# Altium footprint library KNoT-Gateway.PcbLib: 21 footprints (part 2 of 2)
Each footprint in its own frame and in the unit in brackets; x right, y up, seen from the top. Pads: shape width x height; smd on the part's side, far side on the other; paste and mask are expansions set on the pad; w line width, h text height; cw(c..) or ccw(c..) is an arc to the next point about the centre after c.
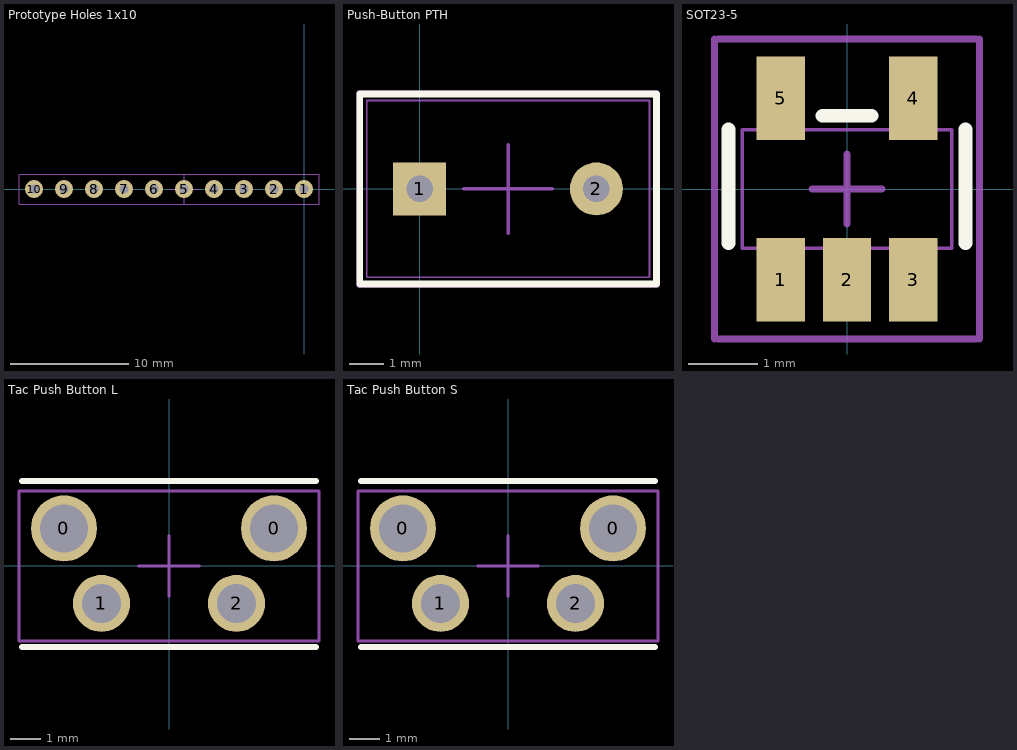
[diagram p1: the footprints below, top view; thin cyan lines are the x and y axes]

## Prototype Holes 1x10 [mil]
pads (10):
  round 60 hole 30: 1(0,0) 2(-100,0) 3(-200,0) 4(-300,0) 5(-400,0) 6(-500,0) 7(-600,0) 8(-700,0) 9(-800,0) 10(-900,0)
Mechanical 15:
  lines w3.94: -450,0 -350,0 ; -400,-50 -400,50 ; -950,-50 -950,50 50,50 50,-50 -950,-50

## Push-Button PTH [mil]
pads (2):
  rect 60x60 hole 30: 1(0,0)
  round 60 hole 30: 2(200,0)
Top Overlay:
  lines w7.87: 267.87,107.68 267.87,-107.87 -67.87,-107.87 -67.87,107.68 267.87,107.68 ; 267.87,107.68 267.87,107.68
Mechanical 11:
  lines w1.97: -60,-100 -60,100 260,100 260,-100 -60,-100
Mechanical 15:
  lines w3.94: 50,0 150,0 ; 100,-50 100,50 ; -69.84,-109.84 -69.84,109.65 269.72,109.65 269.72,-109.84 -69.84,-109.84
3D body: height 129.92, standoff -742.13, extent -60.03,-100.11 260.04,100.01

## SOT23-5 [mm]
pads (5):
  rect 0.69x1.2 smd: 1(-0.95,-1.3) 2(0,-1.3) 3(0.95,-1.3) 4(0.95,1.3) 5(-0.95,1.3)
Top Overlay:
  lines w0.2: -1.7,-0.771 -1.7,0.85 ; -0.35,1.05 0.35,1.05 ; 1.7,-0.771 1.7,0.85
Top Solder:
  region: -0.95,-1.993 -0.95,-0.6 0.95,-0.6 0.95,-1.987
Mechanical 11:
  lines w0.05: -1.5,-0.85 -1.5,0.85 1.5,0.85 1.5,-0.85 -1.5,-0.85
Mechanical 15:
  lines w0.1: -1.9,-2.15 -1.9,2.15 ; -1.85,-2.15 1.85,-2.15 ; -1.85,2.15 1.85,2.15 ; -0.5,0 0.5,0 ; 0,-0.5 0,0.5 ; 1.9,-2.15 1.9,2.15
3D body: height 1.05, standoff -0.05, extent -1.5,-1.25 1.5,1.25

## Tac Push Button L [mm] "Panasonic Small Tac Push Button 8.35mm"
pads (4):
  round 2.2 hole 1.6: 0(-3.5,1.25) 0(3.5,1.25)
  round 1.9 hole 1.3: 1(-2.25,-1.25) 2(2.25,-1.25)
Top Overlay:
  lines w0.2: -4.9,-2.7 4.9,-2.7 ; -4.9,2.827 0,2.827 4.9,2.827
Mechanical 1:
  lines w0.1: -5,-2.5 -5,2.5 5,2.5 5,-2.5 -5,-2.5
Mechanical 15:
  lines w0.1: -1.016,0 1.016,0 0,0 0,1.016 0,-1.016
3D body: height 7.31, standoff -3.39, extent -4.064,-9.381 4.036,2.269

## Tac Push Button S [mm] "Panasonic Small Tac Push Button 5.85mm"
pads (4):
  round 2.2 hole 1.6: 0(-3.5,1.25) 0(3.5,1.25)
  round 1.9 hole 1.3: 1(-2.25,-1.25) 2(2.25,-1.25)
Top Overlay:
  lines w0.2: -4.9,-2.7 4.9,-2.7 ; -4.9,2.827 0,2.827 4.9,2.827
Mechanical 1:
  lines w0.1: -5,-2.5 5,-2.5 5,2.5 -5,2.5 -5,-2.5
Mechanical 15:
  lines w0.1: -1.016,0 1.016,0 0,0 0,1.016 0,-1.016
3D body: height 7.31, standoff -3.39, extent -3.937,-6.988 4.163,2.162